# EAGLE library part 653006117322 (library Wire-to-Board (rev18a))
WR-WTB 1.25mm Male Horizontal Shrouded Header, 6 Pins=>Code : Con_WTB_1.25_PCB_THT_653006117322 <http://katalog.we-online.de/media/thumbs2/eican/thb_Con_WTB_1.25_PCB_THT_6530xx117322_pf2.jpg> Details see: http://katalog.we-online.de/en/em/WTB_1_25_MALE_HORIZONTAL_SHROUDED_HEADER_6530XX117322 Created 2014-06-06, Karrer Zheng 2014 (C) Würth Elektronik
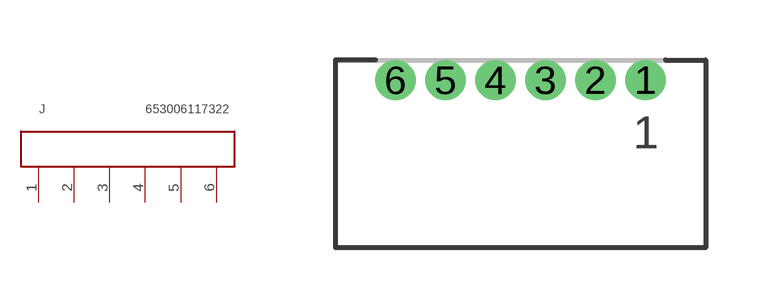
[diagram p86: symbol with the pads of 653006117322; footprint 653006117322]

Designator prefix J

## 653006117322  [653006117322]
1  6  pas
2  5  pas
3  4  pas
4  3  pas
5  2  pas
6  1  pas

## Footprint 653006117322 (pad centres in mm)
WR-WTB 1.25mm Male Horizontal Shrouded Header, 6 Pins
drill 0.5: 1 3.125,0; 2 1.875,0; 3 0.625,0; 4 -0.625,0; 5 -1.875,0; 6 -3.125,0